# EAGLE library part ISL94203 (library Gibbot)
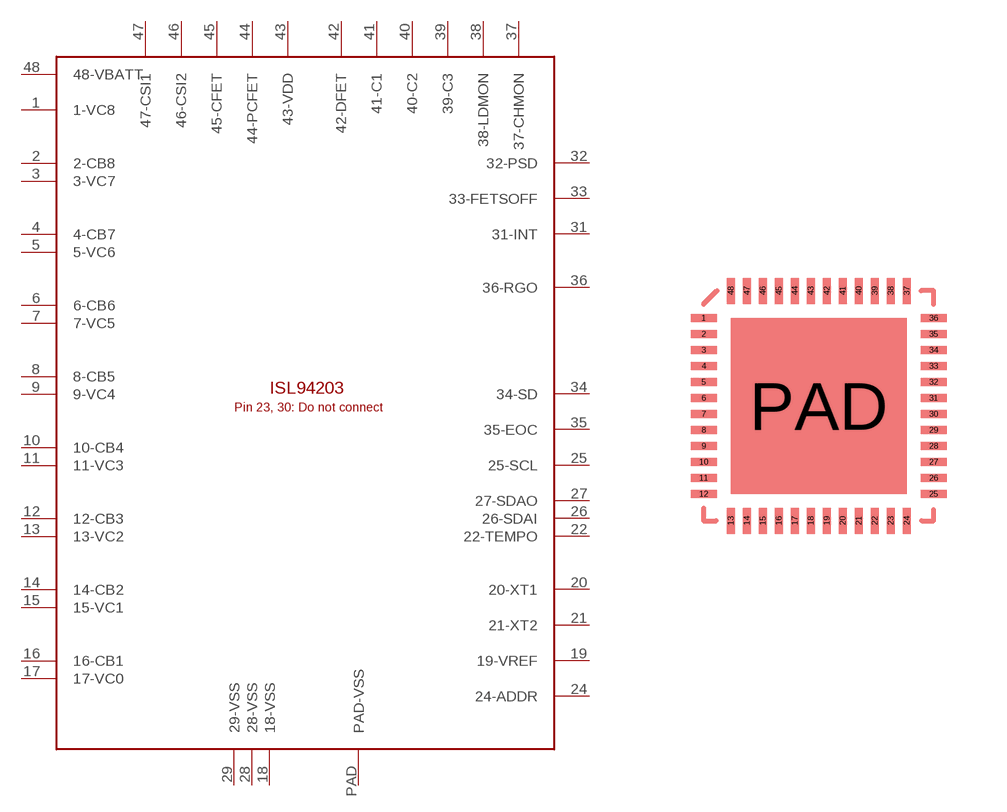
[diagram p10: symbol with the pads of TQFPNL-48; footprint TQFPNL-48]

Designator prefix -

## ISL94203  [TQFPNL-48]
1  1-VC8
2  2-CB8
3  3-VC7
4  4-CB7
5  5-VC6
6  6-CB6
7  7-VC5
8  8-CB5
9  9-VC4
10  10-CB4
11  11-VC3
12  12-CB3
13  13-VC2
14  14-CB2
15  15-VC1
16  16-CB1
17  17-VC0
18  18-VSS
19  19-VREF
20  20-XT1
21  21-XT2
22  22-TEMPO
24  24-ADDR
25  25-SCL
26  26-SDAI
27  27-SDAO
28  28-VSS
29  29-VSS
31  31-INT
32  32-PSD
33  33-FETSOFF
34  34-SD
35  35-EOC
36  36-RGO
37  37-CHMON
38  38-LDMON
39  39-C3
40  40-C2
41  41-C1
42  42-DFET
43  43-VDD
44  44-PCFET
45  45-CFET
46  46-CSI2
47  47-CSI1
48  48-VBATT
PAD  PAD-VSS

## Footprint TQFPNL-48 (pad centres in mm)
smd 0.65 x 0.2: 1 -2.875,2.2; 2 -2.875,1.8; 3 -2.875,1.4; 4 -2.875,1; 5 -2.875,0.6; 6 -2.875,0.2; 7 -2.875,-0.2; 8 -2.875,-0.6; 9 -2.875,-1; 10 -2.875,-1.4; 11 -2.875,-1.8; 12 -2.875,-2.2; 25 2.875,-2.2; 26 2.875,-1.8; 27 2.875,-1.4; 28 2.875,-1; 29 2.875,-0.6; 30 2.875,-0.2; 31 2.875,0.2; 32 2.875,0.6; 33 2.875,1; 34 2.875,1.4; 35 2.875,1.8; 36 2.875,2.2
smd 0.2 x 0.65: 13 -2.2,-2.875; 14 -1.8,-2.875; 15 -1.4,-2.875; 16 -1,-2.875; 17 -0.6,-2.875; 18 -0.2,-2.875; 19 0.2,-2.875; 20 0.6,-2.875; 21 1,-2.875; 22 1.4,-2.875; 23 1.8,-2.875; 24 2.2,-2.875; 37 2.2,2.875; 38 1.8,2.875; 39 1.4,2.875; 40 1,2.875; 41 0.6,2.875; 42 0.2,2.875; 43 -0.2,2.875; 44 -0.6,2.875; 45 -1,2.875; 46 -1.4,2.875; 47 -1.8,2.875; 48 -2.2,2.875
smd 4.4 x 4.4: PAD 0,0